# EAGLE library part TS3A5017 (library SteelCaveRobotics-AnalogIC)
Texas Instruments TS3A5017DR Dual single-pole quadruple-throw (4:1) analog switch
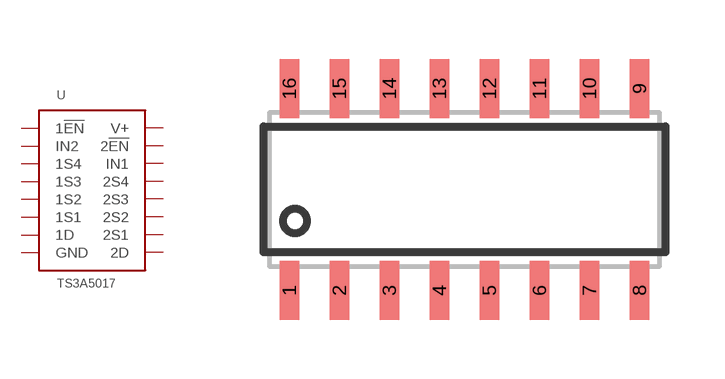
[diagram p0: symbol with the pads of SOIC16; footprint SOIC16]

Designator prefix U

## TS3A5017SOIC16  [SOIC16]
1  1!EN!
2  IN2
3  1S4
4  1S3
5  1S2
6  1S1
7  1D
8  GND  pwr
9  2D
10  2S1
11  2S2
12  2S3
13  2S4
14  IN1
15  2!EN!
16  V+  pwr

## Footprint SOIC16 (pad centres in mm)
SOIC-16-N Narrow (JEDEC) SOIC package
smd 0.5 x 1.5: 1 -4.445,-2.565; 2 -3.175,-2.565; 3 -1.905,-2.565; 4 -0.635,-2.565; 5 0.635,-2.565; 6 1.905,-2.565; 7 3.175,-2.565; 8 4.445,-2.565; 9 4.445,2.565; 10 3.175,2.565; 11 1.905,2.565; 12 0.635,2.565; 13 -0.635,2.565; 14 -1.905,2.565; 15 -3.175,2.565; 16 -4.445,2.565